# Altium schematic symbol library Pin Header WR-PHD_2.54mm.SchLib: 138 symbols (part 3 of 3)
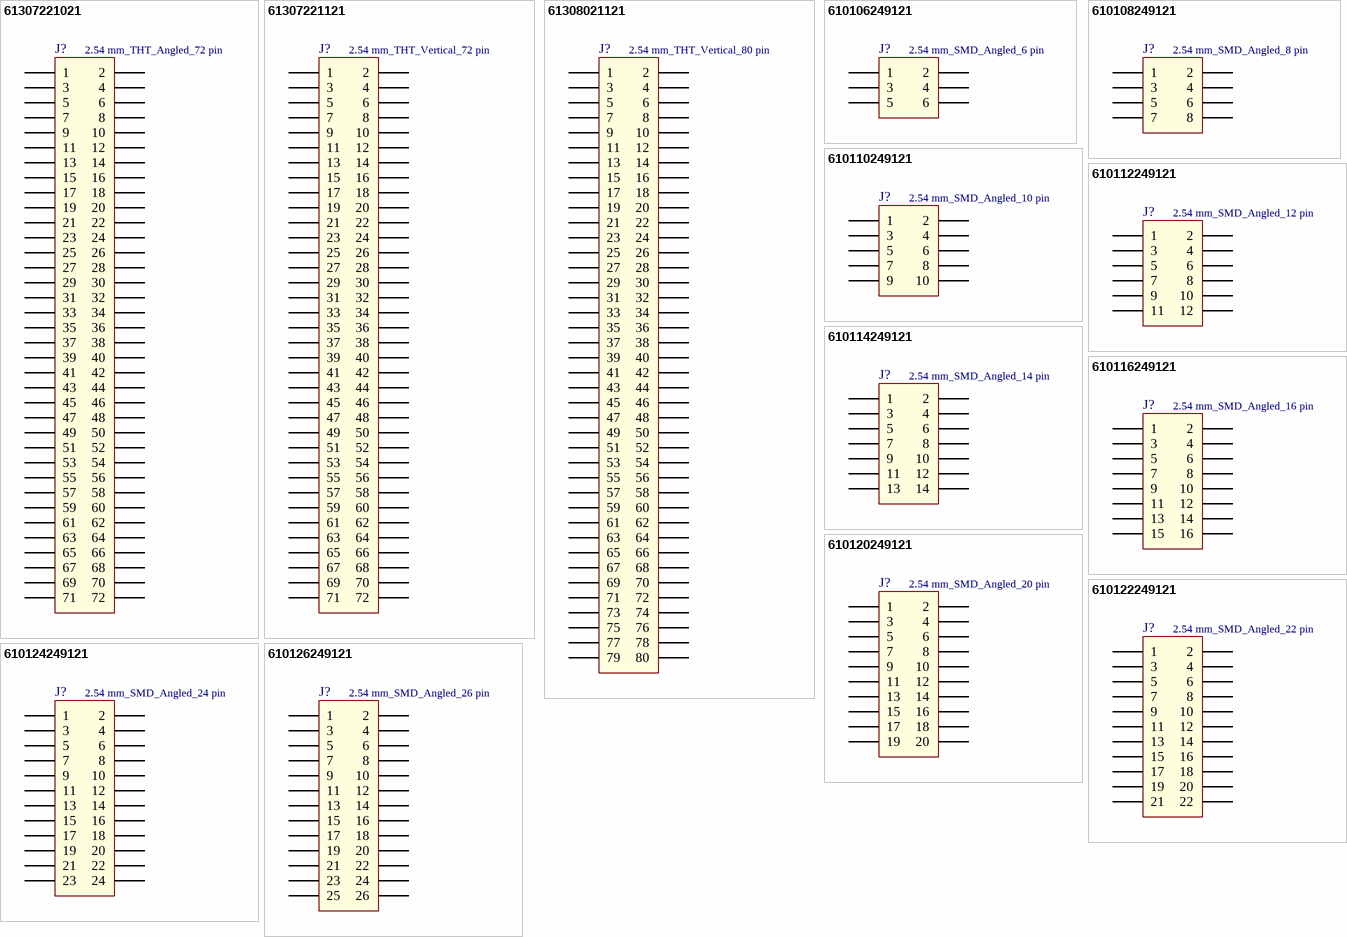
[diagram p8: symbols 61307221021 to 610126249121]

## 610106249121
designator J?, comment 2.54 mm_SMD_Angled_6 pin
Pin Header WR-PHD, pitch 2.54 mm, SMD, Angled, dual row, 6 pin; Part Number: 610106249121; Rated Current: 3 A; Pin Number: 6; Pitch: 2.54 mm; Working Voltage: 250 VAC; Contact Resistance: 20 mOhm; Insulation Resistance: >1000 MOhm; ComponentLink1Description: Manufacturer; ComponentLink1URL: http://www.we-online.de; ComponentLink2Description: Datasheet; ComponentLink2URL: http://katalog.we-online.de/em/datasheet/6101xx249121.pdf; Published Date: Jan. 2018; Publisher: Wurth Elektronik; Operating Temperature: -40 to 105 degC; Mounting Technology: SMD; Row Number: Dual; Orientation: Angled
footprint 610106249121
pins: 1, 2, 3, 4, 5, 6

## 610108249121
designator J?, comment 2.54 mm_SMD_Angled_8 pin
Pin Header WR-PHD, pitch 2.54 mm, SMD, Angled, dual row, 8 pin; Part Number: 610108249121; Rated Current: 3 A; Pin Number: 8; Pitch: 2.54 mm; Working Voltage: 250 VAC; Contact Resistance: 20 mOhm; Insulation Resistance: >1000 MOhm; ComponentLink1Description: Manufacturer; ComponentLink1URL: http://www.we-online.de; ComponentLink2Description: Datasheet; ComponentLink2URL: http://katalog.we-online.de/em/datasheet/6101xx249121.pdf; Published Date: Jan. 2018; Publisher: Wurth Elektronik; Operating Temperature: -40 to 105 degC; Mounting Technology: SMD; Row Number: Dual; Orientation: Angled
footprint 610108249121
pins: 1, 2, 3, 4, 5, 6, 7, 8

## 610110249121
designator J?, comment 2.54 mm_SMD_Angled_10 pin
Pin Header WR-PHD, pitch 2.54 mm, SMD, Angled, dual row, 10 pin; Part Number: 610110249121; Rated Current: 3 A; Pin Number: 10; Pitch: 2.54 mm; Working Voltage: 250 VAC; Contact Resistance: 20 mOhm; Insulation Resistance: >1000 MOhm; ComponentLink1Description: Manufacturer; ComponentLink1URL: http://www.we-online.de; ComponentLink2Description: Datasheet; ComponentLink2URL: http://katalog.we-online.de/em/datasheet/6101xx249121.pdf; Published Date: Jan. 2018; Publisher: Wurth Elektronik; Operating Temperature: -40 to 105 degC; Mounting Technology: SMD; Row Number: Dual; Orientation: Angled
footprint 610110249121
pins: 1, 2, 3, 4, 5, 6, 7, 8, 9, 10

## 610112249121
designator J?, comment 2.54 mm_SMD_Angled_12 pin
Pin Header WR-PHD, pitch 2.54 mm, SMD, Angled, dual row, 12 pin; Part Number: 610112249121; Rated Current: 3 A; Pin Number: 12; Pitch: 2.54 mm; Working Voltage: 250 VAC; Contact Resistance: 20 mOhm; Insulation Resistance: >1000 MOhm; ComponentLink1Description: Manufacturer; ComponentLink1URL: http://www.we-online.de; ComponentLink2Description: Datasheet; ComponentLink2URL: http://katalog.we-online.de/em/datasheet/6101xx249121.pdf; Published Date: Jan. 2018; Publisher: Wurth Elektronik; Operating Temperature: -40 to 105 degC; Mounting Technology: SMD; Row Number: Dual; Orientation: Angled
footprint 610112249121
pins: 1, 2, 3, 4, 5, 6, 7, 8, 9, 10, 11, 12

## 610114249121
designator J?, comment 2.54 mm_SMD_Angled_14 pin
Pin Header WR-PHD, pitch 2.54 mm, SMD, Angled, dual row, 14 pin; Part Number: 610114249121; Rated Current: 3 A; Pin Number: 14; Pitch: 2.54 mm; Working Voltage: 250 VAC; Contact Resistance: 20 mOhm; Insulation Resistance: >1000 MOhm; ComponentLink1Description: Manufacturer; ComponentLink1URL: http://www.we-online.de; ComponentLink2Description: Datasheet; ComponentLink2URL: http://katalog.we-online.de/em/datasheet/6101xx249121.pdf; Published Date: Jan. 2018; Publisher: Wurth Elektronik; Operating Temperature: -40 to 105 degC; Mounting Technology: SMD; Row Number: Dual; Orientation: Angled
footprint 610114249121
pins: 1, 2, 3, 4, 5, 6, 7, 8, 9, 10, 11, 12, 13, 14

## 610116249121
designator J?, comment 2.54 mm_SMD_Angled_16 pin
Pin Header WR-PHD, pitch 2.54 mm, SMD, Angled, dual row, 16 pin; Part Number: 610116249121; Rated Current: 3 A; Pin Number: 16; Pitch: 2.54 mm; Working Voltage: 250 VAC; Contact Resistance: 20 mOhm; Insulation Resistance: >1000 MOhm; ComponentLink1Description: Manufacturer; ComponentLink1URL: http://www.we-online.de; ComponentLink2Description: Datasheet; ComponentLink2URL: http://katalog.we-online.de/em/datasheet/6101xx249121.pdf; Published Date: Jan. 2018; Publisher: Wurth Elektronik; Operating Temperature: -40 to 105 degC; Mounting Technology: SMD; Row Number: Dual; Orientation: Angled
footprint 610116249121
pins: 1, 2, 3, 4, 5, 6, 7, 8, 9, 10, 11, 12, 13, 14, 15, 16

## 610120249121
designator J?, comment 2.54 mm_SMD_Angled_20 pin
Pin Header WR-PHD, pitch 2.54 mm, SMD, Angled, dual row, 20 pin; Part Number: 610120249121; Rated Current: 3 A; Pin Number: 20; Pitch: 2.54 mm; Working Voltage: 250 VAC; Contact Resistance: 20 mOhm; Insulation Resistance: >1000 MOhm; ComponentLink1Description: Manufacturer; ComponentLink1URL: http://www.we-online.de; ComponentLink2Description: Datasheet; ComponentLink2URL: http://katalog.we-online.de/em/datasheet/6101xx249121.pdf; Published Date: Jan. 2018; Publisher: Wurth Elektronik; Operating Temperature: -40 to 105 degC; Mounting Technology: SMD; Row Number: Dual; Orientation: Angled
footprint 610120249121
pins: 1, 2, 3, 4, 5, 6, 7, 8, 9, 10, 11, 12, 13, 14, 15, 16, 17, 18, 19, 20

## 610122249121
designator J?, comment 2.54 mm_SMD_Angled_22 pin
Pin Header WR-PHD, pitch 2.54 mm, SMD, Angled, dual row, 22 pin; Part Number: 610122249121; Rated Current: 3 A; Pin Number: 22; Pitch: 2.54 mm; Working Voltage: 250 VAC; Contact Resistance: 20 mOhm; Insulation Resistance: >1000 MOhm; ComponentLink1Description: Manufacturer; ComponentLink1URL: http://www.we-online.de; ComponentLink2Description: Datasheet; ComponentLink2URL: http://katalog.we-online.de/em/datasheet/6101xx249121.pdf; Published Date: Jan. 2018; Publisher: Wurth Elektronik; Operating Temperature: -40 to 105 degC; Mounting Technology: SMD; Row Number: Dual; Orientation: Angled
footprint 610122249121
pins: 1, 2, 3, 4, 5, 6, 7, 8, 9, 10, 11, 12, 13, 14, 15, 16, 17, 18, 19, 20, 21, 22

## 610124249121
designator J?, comment 2.54 mm_SMD_Angled_24 pin
Pin Header WR-PHD, pitch 2.54 mm, SMD, Angled, dual row, 24 pin; Part Number: 610124249121; Rated Current: 3 A; Pin Number: 24; Pitch: 2.54 mm; Working Voltage: 250 VAC; Contact Resistance: 20 mOhm; Insulation Resistance: >1000 MOhm; ComponentLink1Description: Manufacturer; ComponentLink1URL: http://www.we-online.de; ComponentLink2Description: Datasheet; ComponentLink2URL: http://katalog.we-online.de/em/datasheet/6101xx249121.pdf; Published Date: Jan. 2018; Publisher: Wurth Elektronik; Operating Temperature: -40 to 105 degC; Mounting Technology: SMD; Row Number: Dual; Orientation: Angled
footprint 610124249121
pins: 1, 2, 3, 4, 5, 6, 7, 8, 9, 10, 11, 12, 13, 14, 15, 16, 17, 18, 19, 20, 21, 22, 23, 24

## 610126249121
designator J?, comment 2.54 mm_SMD_Angled_26 pin
Pin Header WR-PHD, pitch 2.54 mm, SMD, Angled, dual row, 26 pin; Part Number: 610126249121; Rated Current: 3 A; Pin Number: 26; Pitch: 2.54 mm; Working Voltage: 250 VAC; Contact Resistance: 20 mOhm; Insulation Resistance: >1000 MOhm; ComponentLink1Description: Manufacturer; ComponentLink1URL: http://www.we-online.de; ComponentLink2Description: Datasheet; ComponentLink2URL: http://katalog.we-online.de/em/datasheet/6101xx249121.pdf; Published Date: Jan. 2018; Publisher: Wurth Elektronik; Operating Temperature: -40 to 105 degC; Mounting Technology: SMD; Row Number: Dual; Orientation: Angled
footprint 610126249121
pins: 1, 2, 3, 4, 5, 6, 7, 8, 9, 10, 11, 12, 13, 14, 15, 16, 17, 18, 19, 20, 21, 22, 23, 24, 25, 26